# Altium schematic symbol library ANT5320LL04R2455A.SchLib: 1 symbol
Pins are listed as number, name and electrical type; pins without a type are passive.

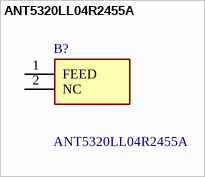
[diagram p0: symbol ANT5320LL04R2455A]

## ANT5320LL04R2455A
designator B?
Chip Antenna Linear Dual Band 50Ohm 2.4GHz/5GHz 2.09dBi/4.32dBi 2-Pin SMD T/R - Tape and Reel; Manufacturer_Name: Pulse Electronics; Geometry.Height: 1.7mm; Mouser2 Part Number: *; Mouser2 Price/Stock: *; Manufacturer_Part_Number: ANT5320LL04R2455A; Datasheet Link: *
footprint ANTC5320X170N
pins: 1 FEED, 2 NC